# Altium integrated library ERJ-PB6B1004V.IntLib: 1 symbol
Pins are listed as number, name and electrical type; pins without a type are passive.

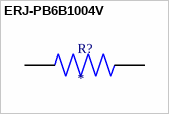
[diagram p0: symbol ERJ-PB6B1004V]

## ERJ-PB6B1004V
designator R?
Series/Type: High Precision Thick Film Chip Resistors , Power Rating (W): 0.25, Chip Size (LxW(EIA)) (mm): 2.0 x 1.25 (EIA:0805), Resistance Values (â„¦): 1000000, Resistance Tolerance (%): 0.1, T.C.R (Ã—10â»â¶/K): Â±50; MP: ERJ-PB6B1004V; MF: Panasonic; Digi-Key_Part_Number: P20936TR-ND; Package: 805-2 Panasonic; Check_prices: https://www.snapeda.com/parts/ERJ-PB6B1004V/Panasonic/view-part/?ref=eda; SnapEDA_Link: https://www.snapeda.com/parts/ERJ-PB6B1004V/Panasonic/view-part/?ref=snap; Purchase-URL: https://pricing.snapeda.com/search/part/ERJ-PB6B1004V/?ref=eda; Value: *
footprint RES_ERJ-PB6B1004V
pins: 1, 2